# Altium footprint library PcbLib_Pin_Headers.PcbLib: 15 footprints
Each footprint in its own frame and in the unit in brackets; x right, y up, seen from the top. Pads: shape width x height; smd on the part's side, far side on the other; paste and mask are expansions set on the pad; w line width, h text height; cw(c..) or ccw(c..) is an arc to the next point about the centre after c.
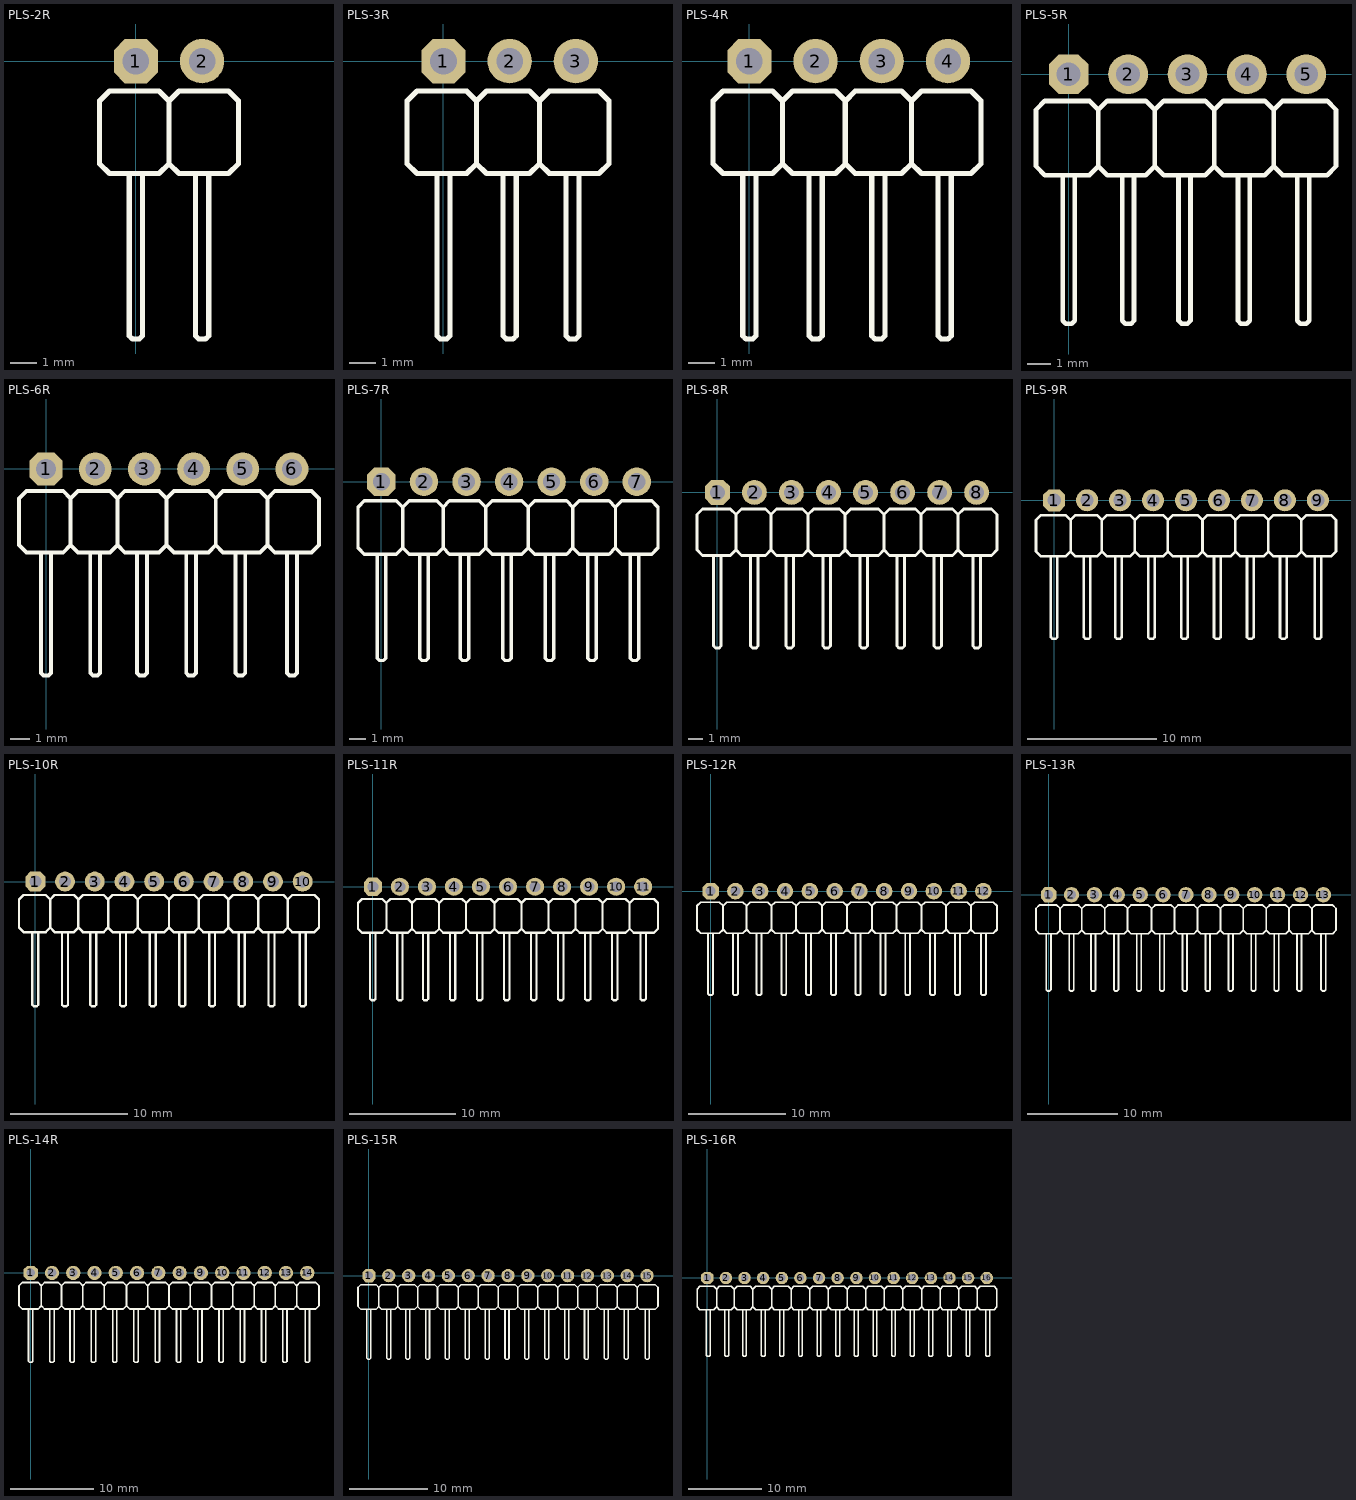
[diagram p0: the footprints below, top view; thin cyan lines are the x and y axes]

## PLS-2R [mm]
pads (2):
  oct 1.7x1.7 hole 1.02: 1(0,0)
  round 1.7 hole 1.02: 2(2.54,0)
Top Overlay:
  lines w0.2: -0.254,-4.318 -0.254,-10.541 -0.127,-10.668 0.127,-10.668 0.254,-10.541 0.254,-4.318 ; 2.286,-4.318 2.286,-10.541 2.413,-10.668 2.667,-10.668 2.794,-10.541 2.794,-4.318 ; 1.27,-3.937 0.889,-4.318 -0.762,-4.318 -1.016,-4.318 -1.397,-3.937 -1.397,-3.683 -1.397,-1.778 -1.397,-1.524 -1.016,-1.143 -0.762,-1.143 0.889,-1.143 1.27,-1.524 ; 1.27,-3.937 1.651,-4.318 3.302,-4.318 3.556,-4.318 3.937,-3.937 3.937,-1.778 3.937,-1.524 3.556,-1.143 3.302,-1.143 1.651,-1.143 1.27,-1.524 ; 1.27,-3.937 1.27,-1.524
3D body "Pin Header 1x2 TH Angle Pitch 2.54mm.stp": height 3.09, standoff -3.2, extent -1.265,-10.796 3.82,0.316

## PLS-3R [mm]
pads (3):
  oct 1.7x1.7 hole 1.02: 1(0,0)
  round 1.7 hole 1.02: 2(2.54,0) 3(5.08,0)
Top Overlay:
  lines w0.2: -0.254,-4.318 -0.254,-10.541 -0.127,-10.668 0.127,-10.668 0.254,-10.541 0.254,-4.318 ; 2.286,-4.318 2.286,-10.541 2.413,-10.668 2.667,-10.668 2.794,-10.541 2.794,-4.318 ; 4.699,-4.318 4.699,-10.541 4.826,-10.668 5.08,-10.668 5.207,-10.541 5.207,-4.318 ; 1.27,-3.937 1.27,-1.524 ; 1.27,-3.937 1.651,-4.318 3.302,-4.318 3.683,-3.937 ; 1.27,-3.937 0.889,-4.318 -0.762,-4.318 -1.016,-4.318 -1.397,-3.937 -1.397,-3.683 -1.397,-1.778 -1.397,-1.524 -1.016,-1.143 -0.762,-1.143 0.889,-1.143 1.27,-1.524 ; 1.27,-1.524 1.651,-1.143 3.302,-1.143 3.683,-1.524 ; 3.683,-3.937 3.683,-1.524 ; 3.683,-3.937 4.064,-4.318 5.715,-4.318 5.969,-4.318 6.35,-3.937 6.35,-1.778 6.35,-1.524 5.969,-1.143 5.715,-1.143 4.064,-1.143 3.683,-1.524
3D body "Pin Header 1x3 TH Angle Pitch 2.54mm.stp": height 3.09, standoff -3.2, extent -1.265,-10.796 6.36,0.316

## PLS-4R [mm]
pads (4):
  oct 1.7x1.7 hole 1.02: 1(0,0)
  round 1.7 hole 1.02: 2(2.54,0) 3(5.08,0) 4(7.62,0)
Top Overlay:
  lines w0.2: -0.254,-4.318 -0.254,-10.541 -0.127,-10.668 0.127,-10.668 0.254,-10.541 0.254,-4.318 ; 2.286,-4.318 2.286,-10.541 2.413,-10.668 2.667,-10.668 2.794,-10.541 2.794,-4.318 ; 4.699,-4.318 4.699,-10.541 4.826,-10.668 5.08,-10.668 5.207,-10.541 5.207,-4.318 ; 7.239,-4.318 7.239,-10.541 7.366,-10.668 7.62,-10.668 7.747,-10.541 7.747,-4.318 ; 1.27,-3.937 0.889,-4.318 -0.762,-4.318 -1.016,-4.318 -1.397,-3.937 -1.397,-3.683 -1.397,-1.778 -1.397,-1.524 -1.016,-1.143 -0.762,-1.143 0.889,-1.143 1.27,-1.524 ; 1.27,-3.937 1.651,-4.318 3.302,-4.318 3.683,-3.937 ; 1.27,-3.937 1.27,-1.524 ; 1.27,-1.524 1.651,-1.143 3.302,-1.143 3.683,-1.524 ; 3.683,-3.937 3.683,-1.524 ; 3.683,-3.937 4.064,-4.318 5.842,-4.318 6.223,-3.937 ; 3.683,-1.524 4.064,-1.143 5.842,-1.143 6.223,-1.524 ; 6.223,-3.937 6.604,-4.318 8.255,-4.318 8.509,-4.318 8.89,-3.937 8.89,-1.778 8.89,-1.524 8.509,-1.143 8.255,-1.143 6.604,-1.143 6.223,-1.524 ; 6.223,-3.937 6.223,-1.524
3D body "Pin Header 1x4 TH Angle Pitch 2.54mm.stp": height 3.09, standoff -3.2, extent -1.265,-10.796 8.9,0.316

## PLS-5R [mm]
pads (5):
  oct 1.7x1.7 hole 1.02: 1(0,0)
  round 1.7 hole 1.02: 2(2.54,0) 3(5.08,0) 4(7.62,0) 5(10.16,0)
Top Overlay:
  lines w0.2: -0.254,-4.318 -0.254,-10.541 -0.127,-10.668 0.127,-10.668 0.254,-10.541 0.254,-4.318 ; 2.286,-4.318 2.286,-10.541 2.413,-10.668 2.667,-10.668 2.794,-10.541 2.794,-4.318 ; 4.699,-4.318 4.699,-10.541 4.826,-10.668 5.08,-10.668 5.207,-10.541 5.207,-4.318 ; 7.239,-4.318 7.239,-10.541 7.366,-10.668 7.62,-10.668 7.747,-10.541 7.747,-4.318 ; 9.779,-4.318 9.779,-10.541 9.906,-10.668 10.16,-10.668 10.287,-10.541 10.287,-4.318 ; 1.27,-3.937 1.27,-1.524 ; 1.27,-3.937 1.651,-4.318 3.302,-4.318 3.683,-3.937 ; 1.27,-3.937 0.889,-4.318 -0.762,-4.318 -1.016,-4.318 -1.397,-3.937 -1.397,-3.683 -1.397,-1.778 -1.397,-1.524 -1.016,-1.143 -0.762,-1.143 0.889,-1.143 1.27,-1.524 ; 1.27,-1.524 1.651,-1.143 3.302,-1.143 3.683,-1.524 ; 3.683,-3.937 4.064,-4.318 5.842,-4.318 6.223,-3.937 ; 3.683,-3.937 3.683,-1.524 ; 3.683,-1.524 4.064,-1.143 5.842,-1.143 6.223,-1.524 ; 6.223,-3.937 6.223,-1.524 ; 6.223,-3.937 6.604,-4.318 8.382,-4.318 8.763,-3.937 ; 6.223,-1.524 6.604,-1.143 8.382,-1.143 8.763,-1.524 ; 8.763,-3.937 9.144,-4.318 10.795,-4.318 11.049,-4.318 11.43,-3.937 11.43,-1.778 11.43,-1.524 11.049,-1.143 10.795,-1.143 9.144,-1.143 8.763,-1.524 ; 8.763,-3.937 8.763,-1.524
3D body "Pin Header 1x5 TH Angle Pitch 2.54mm.stp": height 3.09, standoff -3.2, extent -1.265,-10.796 11.44,0.316

## PLS-6R [mm]
pads (6):
  oct 1.7x1.7 hole 1.02: 1(0,0)
  round 1.7 hole 1.02: 2(2.54,0) 3(5.08,0) 4(7.62,0) 5(10.16,0) 6(12.7,0)
Top Overlay:
  lines w0.2: -0.254,-4.318 -0.254,-10.541 -0.127,-10.668 0.127,-10.668 0.254,-10.541 0.254,-4.318 ; 2.286,-4.318 2.286,-10.541 2.413,-10.668 2.667,-10.668 2.794,-10.541 2.794,-4.318 ; 4.699,-4.318 4.699,-10.541 4.826,-10.668 5.08,-10.668 5.207,-10.541 5.207,-4.318 ; 7.239,-4.318 7.239,-10.541 7.366,-10.668 7.62,-10.668 7.747,-10.541 7.747,-4.318 ; 9.779,-4.318 9.779,-10.541 9.906,-10.668 10.16,-10.668 10.287,-10.541 10.287,-4.318 ; 12.446,-4.318 12.446,-10.541 12.573,-10.668 12.827,-10.668 12.954,-10.541 12.954,-4.318 ; 1.27,-3.937 0.889,-4.318 -0.762,-4.318 -1.016,-4.318 -1.397,-3.937 -1.397,-3.683 -1.397,-1.778 -1.397,-1.524 -1.016,-1.143 -0.762,-1.143 0.889,-1.143 1.27,-1.524 ; 1.27,-3.937 1.651,-4.318 3.302,-4.318 3.683,-3.937 ; 1.27,-3.937 1.27,-1.524 ; 1.27,-1.524 1.651,-1.143 3.302,-1.143 3.683,-1.524 ; 3.683,-3.937 3.683,-1.524 ; 3.683,-3.937 4.064,-4.318 5.842,-4.318 6.223,-3.937 ; 3.683,-1.524 4.064,-1.143 5.842,-1.143 6.223,-1.524 ; 6.223,-3.937 6.604,-4.318 8.382,-4.318 8.763,-3.937 ; 6.223,-3.937 6.223,-1.524 ; 6.223,-1.524 6.604,-1.143 8.382,-1.143 8.763,-1.524 ; 8.763,-3.937 9.144,-4.318 11.049,-4.318 11.43,-3.937 ; 8.763,-3.937 8.763,-1.524 ; 8.763,-1.524 9.144,-1.143 11.049,-1.143 11.43,-1.524 ; 11.43,-3.937 11.43,-1.524 ; 11.43,-3.937 11.811,-4.318 13.462,-4.318 13.716,-4.318 14.097,-3.937 14.097,-1.778 14.097,-1.524 13.716,-1.143 13.462,-1.143 11.811,-1.143 11.43,-1.524
3D body "Pin Header 1x6 TH Angle Pitch 2.54mm.stp": height 3.09, standoff -3.2, extent -1.265,-10.796 13.98,0.316

## PLS-7R [mm]
pads (7):
  oct 1.7x1.7 hole 1.02: 1(0,0)
  round 1.7 hole 1.02: 2(2.54,0) 3(5.08,0) 4(7.62,0) 5(10.16,0) 6(12.7,0) 7(15.24,0)
Top Overlay:
  lines w0.2: -0.254,-4.318 -0.254,-10.541 -0.127,-10.668 0.127,-10.668 0.254,-10.541 0.254,-4.318 ; 2.286,-4.318 2.286,-10.541 2.413,-10.668 2.667,-10.668 2.794,-10.541 2.794,-4.318 ; 4.699,-4.318 4.699,-10.541 4.826,-10.668 5.08,-10.668 5.207,-10.541 5.207,-4.318 ; 7.239,-4.318 7.239,-10.541 7.366,-10.668 7.62,-10.668 7.747,-10.541 7.747,-4.318 ; 9.779,-4.318 9.779,-10.541 9.906,-10.668 10.16,-10.668 10.287,-10.541 10.287,-4.318 ; 12.319,-4.318 12.319,-10.541 12.446,-10.668 12.7,-10.668 12.827,-10.541 12.827,-4.318 ; 14.859,-4.318 14.859,-10.541 14.986,-10.668 15.24,-10.668 15.367,-10.541 15.367,-4.318 ; 1.27,-3.937 0.889,-4.318 -0.762,-4.318 -1.016,-4.318 -1.397,-3.937 -1.397,-3.683 -1.397,-1.778 -1.397,-1.524 -1.016,-1.143 -0.762,-1.143 0.889,-1.143 1.27,-1.524 ; 1.27,-3.937 1.651,-4.318 3.302,-4.318 3.683,-3.937 ; 1.27,-3.937 1.27,-1.524 ; 1.27,-1.524 1.651,-1.143 3.302,-1.143 3.683,-1.524 ; 3.683,-3.937 3.683,-1.524 ; 3.683,-3.937 4.064,-4.318 5.842,-4.318 6.223,-3.937 ; 3.683,-1.524 4.064,-1.143 5.842,-1.143 6.223,-1.524 ; 6.223,-3.937 6.604,-4.318 8.382,-4.318 8.763,-3.937 ; 6.223,-3.937 6.223,-1.524 ; 6.223,-1.524 6.604,-1.143 8.382,-1.143 8.763,-1.524 ; 8.763,-3.937 9.144,-4.318 11.049,-4.318 11.43,-3.937 ; 8.763,-3.937 8.763,-1.524 ; 8.763,-1.524 9.144,-1.143 11.049,-1.143 11.43,-1.524 ; 11.43,-3.937 11.43,-1.524 ; 11.43,-3.937 11.811,-4.318 13.589,-4.318 13.97,-3.937 ; 11.43,-1.524 11.811,-1.143 13.589,-1.143 13.97,-1.524 ; 13.97,-3.937 14.351,-4.318 16.129,-4.318 16.51,-3.937 16.51,-1.524 16.129,-1.143 14.351,-1.143 13.97,-1.524 ; 13.97,-3.937 13.97,-1.524
3D body "Pin Header 1x7 TH Angle Pitch 2.54mm.stp": height 3.09, standoff -3.2, extent -1.265,-10.796 16.52,0.316

## PLS-8R [mm]
pads (8):
  oct 1.7x1.7 hole 1.02: 1(0,0)
  round 1.7 hole 1.02: 2(2.54,0) 3(5.08,0) 4(7.62,0) 5(10.16,0) 6(12.7,0) 7(15.24,0)
  round 1.7 hole 1.02 paste+0: 8(17.78,0)
Top Overlay:
  lines w0.2: -0.254,-4.318 -0.254,-10.541 -0.127,-10.668 0.127,-10.668 0.254,-10.541 0.254,-4.318 ; 2.286,-4.318 2.286,-10.541 2.413,-10.668 2.667,-10.668 2.794,-10.541 2.794,-4.318 ; 4.699,-4.318 4.699,-10.541 4.826,-10.668 5.08,-10.668 5.207,-10.541 5.207,-4.318 ; 7.239,-4.318 7.239,-10.541 7.366,-10.668 7.62,-10.668 7.747,-10.541 7.747,-4.318 ; 9.779,-4.318 9.779,-10.541 9.906,-10.668 10.16,-10.668 10.287,-10.541 10.287,-4.318 ; 12.319,-4.318 12.319,-10.541 12.446,-10.668 12.7,-10.668 12.827,-10.541 12.827,-4.318 ; 14.859,-4.318 14.859,-10.541 14.986,-10.668 15.24,-10.668 15.367,-10.541 15.367,-4.318 ; 17.526,-4.318 17.526,-10.541 17.653,-10.668 17.907,-10.668 18.034,-10.541 18.034,-4.318 ; 1.27,-3.937 1.27,-1.524 ; 1.27,-3.937 1.651,-4.318 3.302,-4.318 3.683,-3.937 ; 1.27,-3.937 0.889,-4.318 -0.762,-4.318 -1.016,-4.318 -1.397,-3.937 -1.397,-3.683 -1.397,-1.778 -1.397,-1.524 -1.016,-1.143 -0.762,-1.143 0.889,-1.143 1.27,-1.524 ; 1.27,-1.524 1.651,-1.143 3.302,-1.143 3.683,-1.524 ; 3.683,-3.937 4.064,-4.318 5.842,-4.318 6.223,-3.937 ; 3.683,-3.937 3.683,-1.524 ; 3.683,-1.524 4.064,-1.143 5.842,-1.143 6.223,-1.524 ; 6.223,-3.937 6.223,-1.524 ; 6.223,-3.937 6.604,-4.318 8.382,-4.318 8.763,-3.937 ; 6.223,-1.524 6.604,-1.143 8.382,-1.143 8.763,-1.524 ; 8.763,-3.937 8.763,-1.524 ; 8.763,-3.937 9.144,-4.318 11.049,-4.318 11.43,-3.937 ; 8.763,-1.524 9.144,-1.143 11.049,-1.143 11.43,-1.524 ; 11.43,-3.937 11.811,-4.318 13.589,-4.318 13.97,-3.937 ; 11.43,-3.937 11.43,-1.524 ; 11.43,-1.524 11.811,-1.143 13.589,-1.143 13.97,-1.524 ; 13.97,-3.937 13.97,-1.524 ; 13.97,-3.937 14.351,-4.318 16.129,-4.318 16.51,-3.937 ; 13.97,-1.524 14.351,-1.143 16.129,-1.143 16.51,-1.524 ; 16.51,-3.937 16.891,-4.318 18.542,-4.318 18.796,-4.318 19.177,-3.937 19.177,-1.778 19.177,-1.524 18.796,-1.143 18.542,-1.143 16.891,-1.143 16.51,-1.524 ; 16.51,-3.937 16.51,-1.524
3D body "Pin Header 1x8 TH Angle Pitch 2.54mm.stp": height 3.09, standoff -3.2, extent -1.265,-10.796 19.06,0.316

## PLS-9R [mm]
pads (9):
  oct 1.7x1.7 hole 1.02: 1(0,0)
  round 1.7 hole 1.02: 2(2.54,0) 3(5.08,0) 4(7.62,0) 5(10.16,0) 6(12.7,0) 7(15.24,0) 9(20.32,0)
  round 1.7 hole 1.02 paste+0: 8(17.78,0)
Top Overlay:
  lines w0.2: -0.254,-4.318 -0.254,-10.541 -0.127,-10.668 0.127,-10.668 0.254,-10.541 0.254,-4.318 ; 2.286,-4.318 2.286,-10.541 2.413,-10.668 2.667,-10.668 2.794,-10.541 2.794,-4.318 ; 4.699,-4.318 4.699,-10.541 4.826,-10.668 5.08,-10.668 5.207,-10.541 5.207,-4.318 ; 7.239,-4.318 7.239,-10.541 7.366,-10.668 7.62,-10.668 7.747,-10.541 7.747,-4.318 ; 9.779,-4.318 9.779,-10.541 9.906,-10.668 10.16,-10.668 10.287,-10.541 10.287,-4.318 ; 12.319,-4.318 12.319,-10.541 12.446,-10.668 12.7,-10.668 12.827,-10.541 12.827,-4.318 ; 14.859,-4.318 14.859,-10.541 14.986,-10.668 15.24,-10.668 15.367,-10.541 15.367,-4.318 ; 17.399,-4.318 17.399,-10.541 17.526,-10.668 17.78,-10.668 17.907,-10.541 17.907,-4.318 ; 20.066,-4.318 20.066,-10.541 20.193,-10.668 20.447,-10.668 20.574,-10.541 20.574,-4.318 ; 1.27,-3.937 0.889,-4.318 -0.762,-4.318 -1.016,-4.318 -1.397,-3.937 -1.397,-3.683 -1.397,-1.778 -1.397,-1.524 -1.016,-1.143 -0.762,-1.143 0.889,-1.143 1.27,-1.524 ; 1.27,-3.937 1.651,-4.318 3.302,-4.318 3.683,-3.937 ; 1.27,-3.937 1.27,-1.524 ; 1.27,-1.524 1.651,-1.143 3.302,-1.143 3.683,-1.524 ; 3.683,-3.937 3.683,-1.524 ; 3.683,-3.937 4.064,-4.318 5.842,-4.318 6.223,-3.937 ; 3.683,-1.524 4.064,-1.143 5.842,-1.143 6.223,-1.524 ; 6.223,-3.937 6.604,-4.318 8.382,-4.318 8.763,-3.937 ; 6.223,-3.937 6.223,-1.524 ; 6.223,-1.524 6.604,-1.143 8.382,-1.143 8.763,-1.524 ; 8.763,-3.937 9.144,-4.318 11.049,-4.318 11.43,-3.937 ; 8.763,-3.937 8.763,-1.524 ; 8.763,-1.524 9.144,-1.143 11.049,-1.143 11.43,-1.524 ; 11.43,-3.937 11.43,-1.524 ; 11.43,-3.937 11.811,-4.318 13.589,-4.318 13.97,-3.937 ; 11.43,-1.524 11.811,-1.143 13.589,-1.143 13.97,-1.524 ; 13.97,-3.937 14.351,-4.318 16.129,-4.318 16.51,-3.937 ; 13.97,-3.937 13.97,-1.524 ; 13.97,-1.524 14.351,-1.143 16.129,-1.143 16.51,-1.524 ; 16.51,-3.937 16.891,-4.318 18.669,-4.318 19.05,-3.937 ; 16.51,-3.937 16.51,-1.524 ; 16.51,-1.524 16.891,-1.143 18.669,-1.143 19.05,-1.524 ; 19.05,-3.937 19.05,-1.524 ; 19.05,-3.937 19.431,-4.318 21.082,-4.318 21.336,-4.318 21.717,-3.937 21.717,-1.778 21.717,-1.524 21.336,-1.143 21.082,-1.143 19.431,-1.143 19.05,-1.524
3D body "Pin Header 1x9 TH Angle Pitch 2.54mm.stp": height 3.09, standoff -3.2, extent -1.265,-10.796 21.6,0.316

## PLS-10R [mm]
pads (10):
  oct 1.7x1.7 hole 1.02: 1(0,0)
  round 1.7 hole 1.02: 2(2.54,0) 3(5.08,0) 4(7.62,0) 5(10.16,0) 6(12.7,0) 7(15.24,0) 9(20.32,0) 10(22.86,0)
  round 1.7 hole 1.02 paste+0: 8(17.78,0)
Top Overlay:
  lines w0.2: -0.254,-4.318 -0.254,-10.541 -0.127,-10.668 0.127,-10.668 0.254,-10.541 0.254,-4.318 ; 2.286,-4.318 2.286,-10.541 2.413,-10.668 2.667,-10.668 2.794,-10.541 2.794,-4.318 ; 4.699,-4.318 4.699,-10.541 4.826,-10.668 5.08,-10.668 5.207,-10.541 5.207,-4.318 ; 7.239,-4.318 7.239,-10.541 7.366,-10.668 7.62,-10.668 7.747,-10.541 7.747,-4.318 ; 9.779,-4.318 9.779,-10.541 9.906,-10.668 10.16,-10.668 10.287,-10.541 10.287,-4.318 ; 12.319,-4.318 12.319,-10.541 12.446,-10.668 12.7,-10.668 12.827,-10.541 12.827,-4.318 ; 14.859,-4.318 14.859,-10.541 14.986,-10.668 15.24,-10.668 15.367,-10.541 15.367,-4.318 ; 17.399,-4.318 17.399,-10.541 17.526,-10.668 17.78,-10.668 17.907,-10.541 17.907,-4.318 ; 19.939,-4.318 19.939,-10.541 20.066,-10.668 20.32,-10.668 20.447,-10.541 20.447,-4.318 ; 22.606,-4.318 22.606,-10.541 22.733,-10.668 22.987,-10.668 23.114,-10.541 23.114,-4.318 ; 1.27,-3.937 0.889,-4.318 -0.762,-4.318 -1.016,-4.318 -1.397,-3.937 -1.397,-3.683 -1.397,-1.778 -1.397,-1.524 -1.016,-1.143 -0.762,-1.143 0.889,-1.143 1.27,-1.524 ; 1.27,-3.937 1.651,-4.318 3.302,-4.318 3.683,-3.937 ; 1.27,-3.937 1.27,-1.524 ; 1.27,-1.524 1.651,-1.143 3.302,-1.143 3.683,-1.524 ; 3.683,-3.937 3.683,-1.524 ; 3.683,-3.937 4.064,-4.318 5.842,-4.318 6.223,-3.937 ; 3.683,-1.524 4.064,-1.143 5.842,-1.143 6.223,-1.524 ; 6.223,-3.937 6.604,-4.318 8.382,-4.318 8.763,-3.937 ; 6.223,-3.937 6.223,-1.524 ; 6.223,-1.524 6.604,-1.143 8.382,-1.143 8.763,-1.524 ; 8.763,-3.937 9.144,-4.318 11.049,-4.318 11.43,-3.937 ; 8.763,-3.937 8.763,-1.524 ; 8.763,-1.524 9.144,-1.143 11.049,-1.143 11.43,-1.524 ; 11.43,-3.937 11.43,-1.524 ; 11.43,-3.937 11.811,-4.318 13.589,-4.318 13.97,-3.937 ; 11.43,-1.524 11.811,-1.143 13.589,-1.143 13.97,-1.524 ; 13.97,-3.937 14.351,-4.318 16.129,-4.318 16.51,-3.937 ; 13.97,-3.937 13.97,-1.524 ; 13.97,-1.524 14.351,-1.143 16.129,-1.143 16.51,-1.524 ; 16.51,-3.937 16.891,-4.318 18.669,-4.318 19.05,-3.937 ; 16.51,-3.937 16.51,-1.524 ; 16.51,-1.524 16.891,-1.143 18.669,-1.143 19.05,-1.524 ; 19.05,-3.937 19.431,-4.318 21.209,-4.318 21.59,-3.937 ; 19.05,-3.937 19.05,-1.524 ; 19.05,-1.524 19.431,-1.143 21.209,-1.143 21.59,-1.524 ; 21.59,-3.937 21.59,-1.524 ; 21.59,-3.937 21.971,-4.318 23.622,-4.318 23.876,-4.318 24.257,-3.937 24.257,-1.778 24.257,-1.524 23.876,-1.143 23.622,-1.143 21.971,-1.143 21.59,-1.524
3D body "Pin Header 1x10 TH Angle Pitch 2.54mm.stp": height 3.09, standoff -3.2, extent -1.265,-10.796 24.14,0.316

## PLS-11R [mm]
pads (11):
  oct 1.7x1.7 hole 1.02: 1(0,0)
  round 1.7 hole 1.02: 2(2.54,0) 3(5.08,0) 4(7.62,0) 5(10.16,0) 6(12.7,0) 7(15.24,0) 9(20.32,0) 10(22.86,0) 11(25.4,0)
  round 1.7 hole 1.02 paste+0: 8(17.78,0)
Top Overlay:
  lines w0.2: -0.254,-4.318 -0.254,-10.541 -0.127,-10.668 0.127,-10.668 0.254,-10.541 0.254,-4.318 ; 2.286,-4.318 2.286,-10.541 2.413,-10.668 2.667,-10.668 2.794,-10.541 2.794,-4.318 ; 4.699,-4.318 4.699,-10.541 4.826,-10.668 5.08,-10.668 5.207,-10.541 5.207,-4.318 ; 7.239,-4.318 7.239,-10.541 7.366,-10.668 7.62,-10.668 7.747,-10.541 7.747,-4.318 ; 9.779,-4.318 9.779,-10.541 9.906,-10.668 10.16,-10.668 10.287,-10.541 10.287,-4.318 ; 12.319,-4.318 12.319,-10.541 12.446,-10.668 12.7,-10.668 12.827,-10.541 12.827,-4.318 ; 14.859,-4.318 14.859,-10.541 14.986,-10.668 15.24,-10.668 15.367,-10.541 15.367,-4.318 ; 17.399,-4.318 17.399,-10.541 17.526,-10.668 17.78,-10.668 17.907,-10.541 17.907,-4.318 ; 19.939,-4.318 19.939,-10.541 20.066,-10.668 20.32,-10.668 20.447,-10.541 20.447,-4.318 ; 22.479,-4.318 22.479,-10.541 22.606,-10.668 22.86,-10.668 22.987,-10.541 22.987,-4.318 ; 25.146,-4.318 25.146,-10.541 25.273,-10.668 25.527,-10.668 25.654,-10.541 25.654,-4.318 ; 1.27,-3.937 0.889,-4.318 -0.762,-4.318 -1.016,-4.318 -1.397,-3.937 -1.397,-3.683 -1.397,-1.778 -1.397,-1.524 -1.016,-1.143 -0.762,-1.143 0.889,-1.143 1.27,-1.524 ; 1.27,-3.937 1.651,-4.318 3.302,-4.318 3.683,-3.937 ; 1.27,-3.937 1.27,-1.524 ; 1.27,-1.524 1.651,-1.143 3.302,-1.143 3.683,-1.524 ; 3.683,-3.937 3.683,-1.524 ; 3.683,-3.937 4.064,-4.318 5.842,-4.318 6.223,-3.937 ; 3.683,-1.524 4.064,-1.143 5.842,-1.143 6.223,-1.524 ; 6.223,-3.937 6.604,-4.318 8.382,-4.318 8.763,-3.937 ; 6.223,-3.937 6.223,-1.524 ; 6.223,-1.524 6.604,-1.143 8.382,-1.143 8.763,-1.524 ; 8.763,-3.937 9.144,-4.318 11.049,-4.318 11.43,-3.937 ; 8.763,-3.937 8.763,-1.524 ; 8.763,-1.524 9.144,-1.143 11.049,-1.143 11.43,-1.524 ; 11.43,-3.937 11.43,-1.524 ; 11.43,-3.937 11.811,-4.318 13.589,-4.318 13.97,-3.937 ; 11.43,-1.524 11.811,-1.143 13.589,-1.143 13.97,-1.524 ; 13.97,-3.937 14.351,-4.318 16.129,-4.318 16.51,-3.937 ; 13.97,-3.937 13.97,-1.524 ; 13.97,-1.524 14.351,-1.143 16.129,-1.143 16.51,-1.524 ; 16.51,-3.937 16.891,-4.318 18.669,-4.318 19.05,-3.937 ; 16.51,-3.937 16.51,-1.524 ; 16.51,-1.524 16.891,-1.143 18.669,-1.143 19.05,-1.524 ; 19.05,-3.937 19.431,-4.318 21.209,-4.318 21.59,-3.937 ; 19.05,-3.937 19.05,-1.524 ; 19.05,-1.524 19.431,-1.143 21.209,-1.143 21.59,-1.524 ; 21.59,-3.937 21.971,-4.318 23.749,-4.318 24.13,-3.937 ; 21.59,-3.937 21.59,-1.524 ; 21.59,-1.524 21.971,-1.143 23.749,-1.143 24.13,-1.524 ; 24.13,-3.937 24.13,-1.524 ; 24.13,-3.937 24.511,-4.318 26.162,-4.318 26.416,-4.318 26.797,-3.937 26.797,-1.778 26.797,-1.524 26.416,-1.143 26.162,-1.143 24.511,-1.143 24.13,-1.524
3D body "Pin Header 1x11 TH Angle Pitch 2.54mm.stp": height 3.09, standoff -3.2, extent -1.265,-10.796 26.68,0.316

## PLS-12R [mm]
pads (12):
  oct 1.7x1.7 hole 1.02: 1(0,0)
  round 1.7 hole 1.02: 2(2.54,0) 3(5.08,0) 4(7.62,0) 5(10.16,0) 6(12.7,0) 7(15.24,0) 9(20.32,0) 10(22.86,0) 11(25.4,0) 12(27.94,0)
  round 1.7 hole 1.02 paste+0: 8(17.78,0)
Top Overlay:
  drawing of 152 lines, arcs and shapes, not listed
3D body "Pin Header 1x12 TH Angle Pitch 2.54mm.stp": height 3.09, standoff -3.2, extent -1.265,-10.796 29.22,0.316

## PLS-13R [mm]
pads (13):
  oct 1.7x1.7 hole 1.02: 1(0,0)
  round 1.7 hole 1.02: 2(2.54,0) 3(5.08,0) 4(7.62,0) 5(10.16,0) 6(12.7,0) 7(15.24,0) 9(20.32,0) 10(22.86,0) 11(25.4,0) 12(27.94,0) 13(30.48,0)
  round 1.7 hole 1.02 paste+0: 8(17.78,0)
Top Overlay:
  drawing of 164 lines, arcs and shapes, not listed
3D body "Pin Header 1x13 TH Angle Pitch 2.54mm.stp": height 3.09, standoff -3.2, extent -1.265,-10.796 31.76,0.316

## PLS-14R [mm]
pads (14):
  oct 1.7x1.7 hole 1.02: 1(0,0)
  round 1.7 hole 1.02: 2(2.54,0) 3(5.08,0) 4(7.62,0) 5(10.16,0) 6(12.7,0) 7(15.24,0) 9(20.32,0) 10(22.86,0) 11(25.4,0) 12(27.94,0) 13(30.48,0) 14(33.02,0)
  round 1.7 hole 1.02 paste+0: 8(17.78,0)
Top Overlay:
  drawing of 176 lines, arcs and shapes, not listed
3D body "Pin Header 1x14 TH Angle Pitch 2.54mm.stp": height 3.09, standoff -3.2, extent -1.265,-10.796 34.3,0.316

## PLS-15R [mm]
pads (15):
  oct 1.7x1.7 hole 1.02: 1(0,0)
  round 1.7 hole 1.02: 2(2.54,0) 3(5.08,0) 4(7.62,0) 5(10.16,0) 6(12.7,0) 7(15.24,0) 9(20.32,0) 10(22.86,0) 11(25.4,0) 12(27.94,0) 13(30.48,0) 14(33.02,0) 15(35.56,0)
  round 1.7 hole 1.02 paste+0: 8(17.78,0)
Top Overlay:
  drawing of 188 lines, arcs and shapes, not listed
3D body "Pin Header 1x15 TH Angle Pitch 2.54mm.stp": height 3.09, standoff -3.2, extent -1.265,-10.796 36.84,0.316

## PLS-16R [mm]
pads (16):
  oct 1.7x1.7 hole 1.02: 1(0,0)
  round 1.7 hole 1.02: 2(2.54,0) 3(5.08,0) 4(7.62,0) 5(10.16,0) 6(12.7,0) 7(15.24,0) 9(20.32,0) 10(22.86,0) 11(25.4,0) 12(27.94,0) 13(30.48,0) 14(33.02,0) 15(35.56,0) 16(38.1,0)
  round 1.7 hole 1.02 paste+0: 8(17.78,0)
Top Overlay:
  drawing of 200 lines, arcs and shapes, not listed
3D body "Pin Header 1x16 TH Angle Pitch 2.54mm.stp": height 3.09, standoff -3.2, extent -1.265,-10.796 39.38,0.316